# EAGLE library part 621X1621821 (library Eagle_BOARD-TO-BOARD_CONNECTORS (rev18b))
WR-PHD 2.00mm Dual SMT Socket Header Low Profile, 16 Pins=>Code : Con_BTB_SHD_2.00_2_621x1621821(Packaging:x = 0: Tube x = 3: Tape & Reel with Cap) <http://katalog.we-online.de/media/thumbs2/eican/thb_Con_BTB_SHD_2.00_2_6210xx21821_pf2.jpg> 6210xx21821 Details see: http://katalog.we-online.de/en/em/PHD_2_0_SMT_DUAL_SOCKET_HEADER_LOW_PROFILE_6210XX21821 6213xx21821 Details see: http://katalog.we-online.de/en/em/PHD_2_0_SMT_DUAL_SOCKET_HEADER_LOW_PROFILE_REEL_6213XX21821 2014 (C) Würth Elektronik
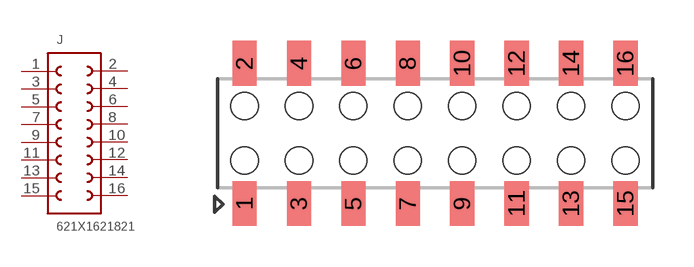
[diagram p268: symbol with the pads of 621X1621821; footprint 621X1621821]

Designator prefix J

## 621X1621821  [621X1621821]
1  1  pas
2  16  pas
3  2  pas
4  15  pas
5  3  pas
6  14  pas
7  4  pas
8  13  pas
9  5  pas
10  12  pas
11  6  pas
12  11  pas
13  7  pas
14  10  pas
15  8  pas
16  9  pas

## Footprint 621X1621821 (pad centres in mm)
WR-PHD 2.00mm Dual SMT Socket Header Low Profile, 16 Pins
smd 0.89 x 1.65: 1 -7,-2.575; 2 -7,2.575; 3 -5,-2.575; 4 -5,2.575; 5 -3,-2.575; 6 -3,2.575; 7 -1,-2.575; 8 -1,2.575; 9 1,-2.575; 10 1,2.575; 11 3,-2.575; 12 3,2.575; 13 5,-2.575; 14 5,2.575; 15 7,-2.575; 16 7,2.575
hole 1 at -7,1
hole 1 at -7,-1
hole 1 at -5,1
hole 1 at -5,-1
hole 1 at -3,-1
hole 1 at -3,1
hole 1 at -1,1
hole 1 at -1,-1
hole 1 at 1,1
hole 1 at 1,-1
hole 1 at 3,1
hole 1 at 5,1
hole 1 at 5,-1
hole 1 at 3,-1
hole 1 at 7,1
hole 1 at 7,-1